# EAGLE library part CA3280 (library AAA_0)
Intersil Dual OTA
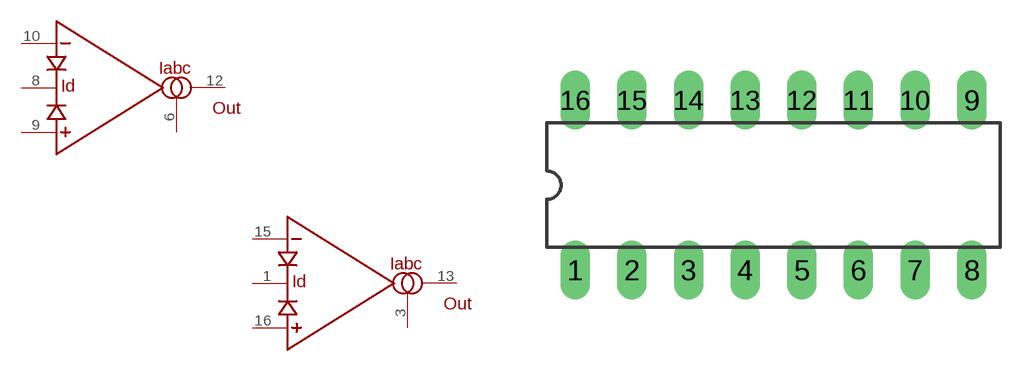
[diagram p5: symbol with the pads of DIL16; footprint DIL16]

Designator prefix IC; gates G$1=OTA_WD G$2=OTA_WD

## CA3280  [DIL16]
1  G$1:ID
3  G$1:IABC
6  G$2:IABC
8  G$2:ID
9  G$2:+IN
10  G$2:-IN
12  G$2:OUT
13  G$1:OUT
15  G$1:-IN
16  G$1:+IN

## Footprint DIL16 (pad centres in mm)
Dual In Line 16
drill 0.813 long: 1 -8.89,-3.81; 2 -6.35,-3.81; 3 -3.81,-3.81; 4 -1.27,-3.81; 5 1.27,-3.81; 6 3.81,-3.81; 7 6.35,-3.81; 8 8.89,-3.81; 9 8.89,3.81; 10 6.35,3.81; 11 3.81,3.81; 12 1.27,3.81; 13 -1.27,3.81; 14 -3.81,3.81; 15 -6.35,3.81; 16 -8.89,3.81